# EAGLE library part INA230 (library borkedlabs-powerics)
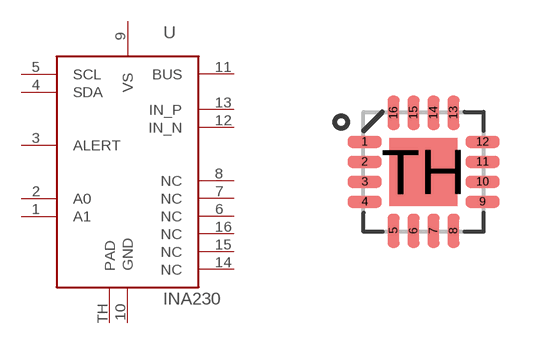
[diagram p12: symbol with the pads of QFN16-3X3-TI-RTE; footprint QFN16-3X3-TI-RTE]

Designator prefix U

## INA230AIRGT (PACKAGE: VQFN-16-3X3)  [QFN16-3X3-TI-RTE]
1  A1
2  A0
3  ALERT
4  SDA
5  SCL
6  NC
7  NC
8  NC
9  VS
10  GND
11  BUS
12  IN_N
13  IN_P
14  NC
15  NC
16  NC
TH  PAD

## Footprint QFN16-3X3-TI-RTE (pad centres in mm)
3x3 mm
smd 0.85 x 0.3: 1 -1.475,0.75; 2 -1.475,0.25; 3 -1.475,-0.25; 4 -1.475,-0.75; 9 1.475,-0.75; 10 1.475,-0.25; 11 1.475,0.25; 12 1.475,0.75
smd 0.3 x 0.85: 5 -0.75,-1.475; 6 -0.25,-1.475; 7 0.25,-1.475; 8 0.75,-1.475; 13 0.75,1.475; 14 0.25,1.475; 15 -0.25,1.475; 16 -0.75,1.475
smd 1.7 x 1.7: TH 0,0